# EAGLE library part LTS15NP (library Commande_H)
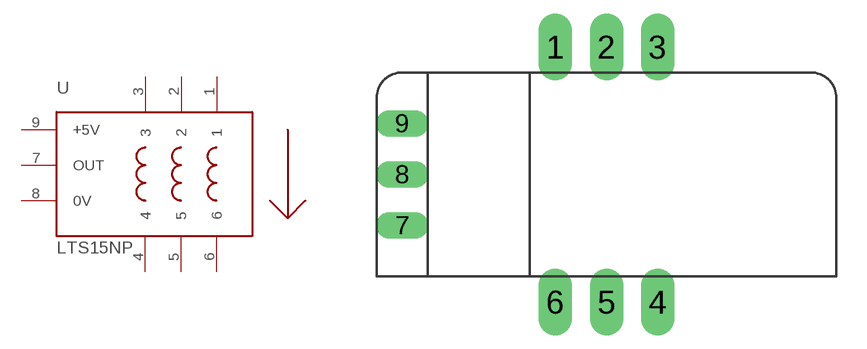
[diagram p1: symbol with the pads of PACK_LTS15NP; footprint PACK_LTS15NP]

Designator prefix U

## LTS15NP  [PACK_LTS15NP]
1  1
2  2
3  3
4  4
5  5
6  6
7  OUT  out
8  0V  pwr
9  +5V  pwr

## Footprint PACK_LTS15NP (pad centres in mm)
drill 0.8 pad 1.676 long: 1 0,0; 2 2.54,0; 3 5.08,0; 4 5.08,-12.7; 5 2.54,-12.7; 6 0,-12.7
drill 0.8 long: 7 -7.62,-8.89; 8 -7.62,-6.35; 9 -7.62,-3.81